# Altium integrated library UVR1C100MDD.IntLib: 1 symbol
Pins are listed as number, name and electrical type; pins without a type are passive.

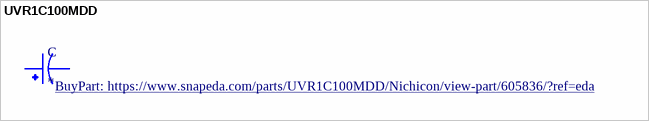
[diagram p0: symbol UVR1C100MDD]

## UVR1C100MDD
designator C
10ÂµF 16V Aluminum Electrolytic Capacitors Radial, Can 2000 Hrs @ 85Â°C; MF: Nichicon; MP: UVR1C100MDD; Package: Radial Nichicon; DigiKey-Purchase-URL: https://snapeda.com/shop?store=DigiKey&id=605836; Value: *; Mouser-Purchase-URL: https://snapeda.com/shop?store=Mouser&id=605836; Arrow_Electronics-Purchase-URL: https://snapeda.com/shop?store=Arrow+Electronics&id=605836; Availability: Good; SnapEDA_Link: https://www.snapeda.com/parts/UVR1C100MDD/Nichicon/view-part/605836/?ref=snap; Price: None; BuyPart: https://www.snapeda.com/parts/UVR1C100MDD/Nichicon/view-part/605836/?ref=eda
footprint CAPPRD200W50D550H1250
pins: 1, 2